# Altium schematic symbol library LQH3NPZ100MJRL.SchLib: 1 symbol
Pins are listed as number, name and electrical type; pins without a type are passive.

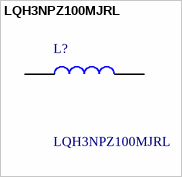
[diagram p0: symbol LQH3NPZ100MJRL]

## LQH3NPZ100MJRL
designator L?
LQH3NPZ_JR Series Inductor 10uH +/-20% 1212 (3030); Manufacturer_Name: Murata Electronics; Geometry.Height: 1.2mm; TME Electronic Components Part Number: *; TME Electronic Components Price/Stock: *; Manufacturer_Part_Number: LQH3NPZ100MJRL; Datasheet Link: https://psearch.en.murata.com/inductor/product/LQH3NPZ100MJR%23.html
footprint LQH3NPN100MJRL
pins: 1, 2